# EAGLE library part CON-2X32-RASTER (library BreakoutBoard)
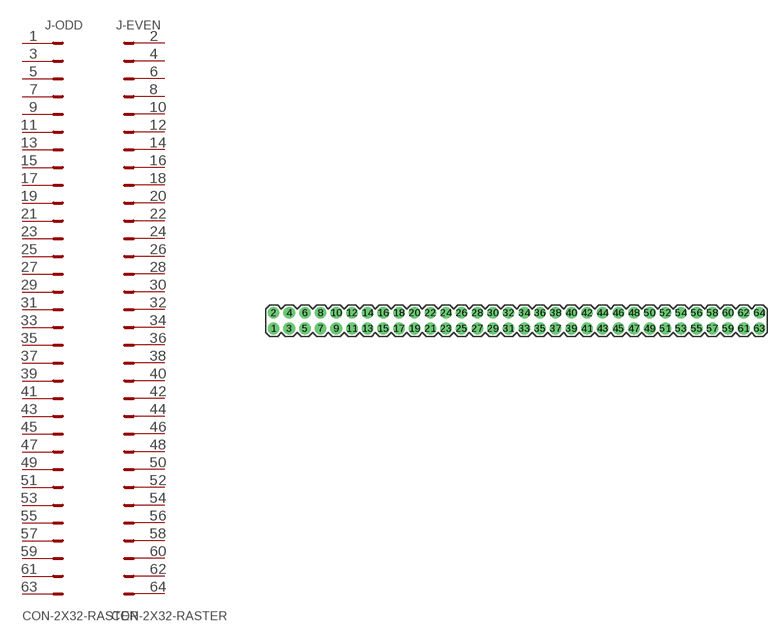
[diagram p14: symbol with the pads of 2X64; footprint 2X64]

Designator prefix J; gates -ODD=CON-1X32-ODD -EVEN=CON-1X32-EVEN

## CON-2X32-RASTER  [2X64]
1  -ODD:1  pas
2  -EVEN:2  pas
3  -ODD:3  pas
4  -EVEN:4  pas
5  -ODD:5  pas
6  -EVEN:6  pas
7  -ODD:7  pas
8  -EVEN:8  pas
9  -ODD:9  pas
10  -EVEN:10  pas
11  -ODD:11  pas
12  -EVEN:12  pas
13  -ODD:13  pas
14  -EVEN:14  pas
15  -ODD:15  pas
16  -EVEN:16  pas
17  -ODD:17  pas
18  -EVEN:18  pas
19  -ODD:19  pas
20  -EVEN:20  pas
21  -ODD:21  pas
22  -EVEN:22  pas
23  -ODD:23  pas
24  -EVEN:24  pas
25  -ODD:25  pas
26  -EVEN:26  pas
27  -ODD:27  pas
28  -EVEN:28  pas
29  -ODD:29  pas
30  -EVEN:30  pas
31  -ODD:31  pas
32  -EVEN:32  pas
33  -ODD:33  pas
34  -EVEN:34  pas
35  -ODD:35  pas
36  -EVEN:36  pas
37  -ODD:37  pas
38  -EVEN:38  pas
39  -ODD:39  pas
40  -EVEN:40  pas
41  -ODD:41  pas
42  -EVEN:42  pas
43  -ODD:43  pas
44  -EVEN:44  pas
45  -ODD:45  pas
46  -EVEN:46  pas
47  -ODD:47  pas
48  -EVEN:48  pas
49  -ODD:49  pas
50  -EVEN:50  pas
51  -ODD:51  pas
52  -EVEN:52  pas
53  -ODD:53  pas
54  -EVEN:54  pas
55  -ODD:55  pas
56  -EVEN:56  pas
57  -ODD:57  pas
58  -EVEN:58  pas
59  -ODD:59  pas
60  -EVEN:60  pas
61  -ODD:61  pas
62  -EVEN:62  pas
63  -ODD:63  pas
64  -EVEN:64  pas

## Footprint 2X64 (pad centres in mm)
drill 1.016 pad 1.88: 1 -39.37,-1.27; 2 -39.37,1.27; 3 -36.83,-1.27; 4 -36.83,1.27; 5 -34.29,-1.27; 6 -34.29,1.27; 7 -31.75,-1.27; 8 -31.75,1.27; 9 -29.21,-1.27; 10 -29.21,1.27; 11 -26.67,-1.27; 12 -26.67,1.27; 13 -24.13,-1.27; 14 -24.13,1.27; 15 -21.59,-1.27; 16 -21.59,1.27; 17 -19.05,-1.27; 18 -19.05,1.27; 19 -16.51,-1.27; 20 -16.51,1.27; 21 -13.97,-1.27; 22 -13.97,1.27; 23 -11.43,-1.27; 24 -11.43,1.27; 25 -8.89,-1.27; 26 -8.89,1.27; 27 -6.35,-1.27; 28 -6.35,1.27; 29 -3.81,-1.27; 30 -3.81,1.27; 31 -1.27,-1.27; 32 -1.27,1.27; 33 1.27,-1.27; 34 1.27,1.27; 35 3.81,-1.27; 36 3.81,1.27; 37 6.35,-1.27; 38 6.35,1.27; 39 8.89,-1.27; 40 8.89,1.27; 41 11.43,-1.27; 42 11.43,1.27; 43 13.97,-1.27; 44 13.97,1.27; 45 16.51,-1.27; 46 16.51,1.27; 47 19.05,-1.27; 48 19.05,1.27; 49 21.59,-1.27; 50 21.59,1.27; 51 24.13,-1.27; 52 24.13,1.27; 53 26.67,-1.27; 54 26.67,1.27; 55 29.21,-1.27; 56 29.21,1.27; 57 31.75,-1.27; 58 31.75,1.27; 59 34.29,-1.27; 60 34.29,1.27; 61 36.83,-1.27; 62 36.83,1.27; 63 39.37,-1.27; 64 39.37,1.27